# EAGLE library part MCP1793T-3302H_DC (library MCP1793T-3302H_DC)
MICROCHIP - MCP1793T-3302H/DC - LDO, FIXED, 3.3V, 0.1A, -40 TO 150DEG C Source: Datasheet <http://ww1.microchip.com/downloads/en/DeviceDoc/MCP1792-Family-Data-Sheet-DS20006229A.pdf>
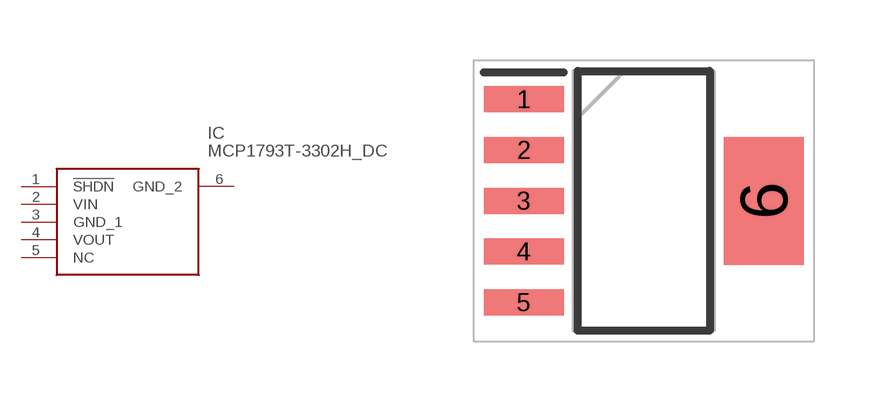
[diagram p0: symbol with the pads of SOT127P706X180-6N; footprint SOT127P706X180-6N]

Designator prefix IC

## MCP1793T-3302H_DC (Arrow_Part_Number: MCP1793T-3302H/DC; Arrow_Price-Stock: https://www.arrow.com/en/products/mcp1793t-3302hdc/microchip-technology; Description: MICROCHIP - MCP1793T-3302H/DC - LDO, FIXED, 3.3V, 0.1A, -40 TO 150DEG C; Height: 1.8mm; Manufacturer_Name: Microchip; Manufacturer_Part_Number: MCP1793T-3302H/DC; Mouser_Part_Number: 579-MCP1793T-3302HDC; Mouser_Price-Stock: https://www.mouser.co.uk/ProductDetail/Microchip-Technology/MCP1793T-3302H-DC?qs=mAH9sUMRCttybKAxA2OiLw%3D%3D)  [SOT127P706X180-6N]
1  !SHDN
2  VIN
3  GND_1
4  VOUT
5  NC  nc
6  GND_2

## Footprint SOT127P706X180-6N (pad centres in mm)
5-Lead(DC)SOT-223
smd 2 x 0.65: 1 -3,2.54; 2 -3,1.27; 3 -3,0; 4 -3,-1.27; 5 -3,-2.54
smd 2 x 3.2: 6 3,0